# Altium integrated library RASH712BKZ_BARREL_CONNECTOR.IntLib: 1 symbol
Pins are listed as number, name and electrical type; pins without a type are passive.

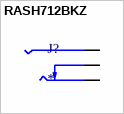
[diagram p0: symbol RASH712BKZ]

## RASH712BKZ
designator J?
Power Barrel Connector Jack 2.50mm ID (0.098"), 5.50mm OD (0.217") Surface Mount, Right Angle; MP: RASH712BKZ; Package: None; Price: None; Value: *; Availability: Unavailable
footprint SWITCHCRAFT_RASH712BKZ
pins: PIN, PIN_2 PIN, SHUNT, SHUNT_2 SHUNT, SLV SLEEVE, SLV_2 SLEEVE